# Altium footprint library aiskylab-09CirProtect.PcbLib: 20 footprints (part 1 of 2)
Each footprint in its own frame and in the unit in brackets; x right, y up, seen from the top. Pads: shape width x height; smd on the part's side, far side on the other; paste and mask are expansions set on the pad; w line width, h text height; cw(c..) or ccw(c..) is an arc to the next point about the centre after c.
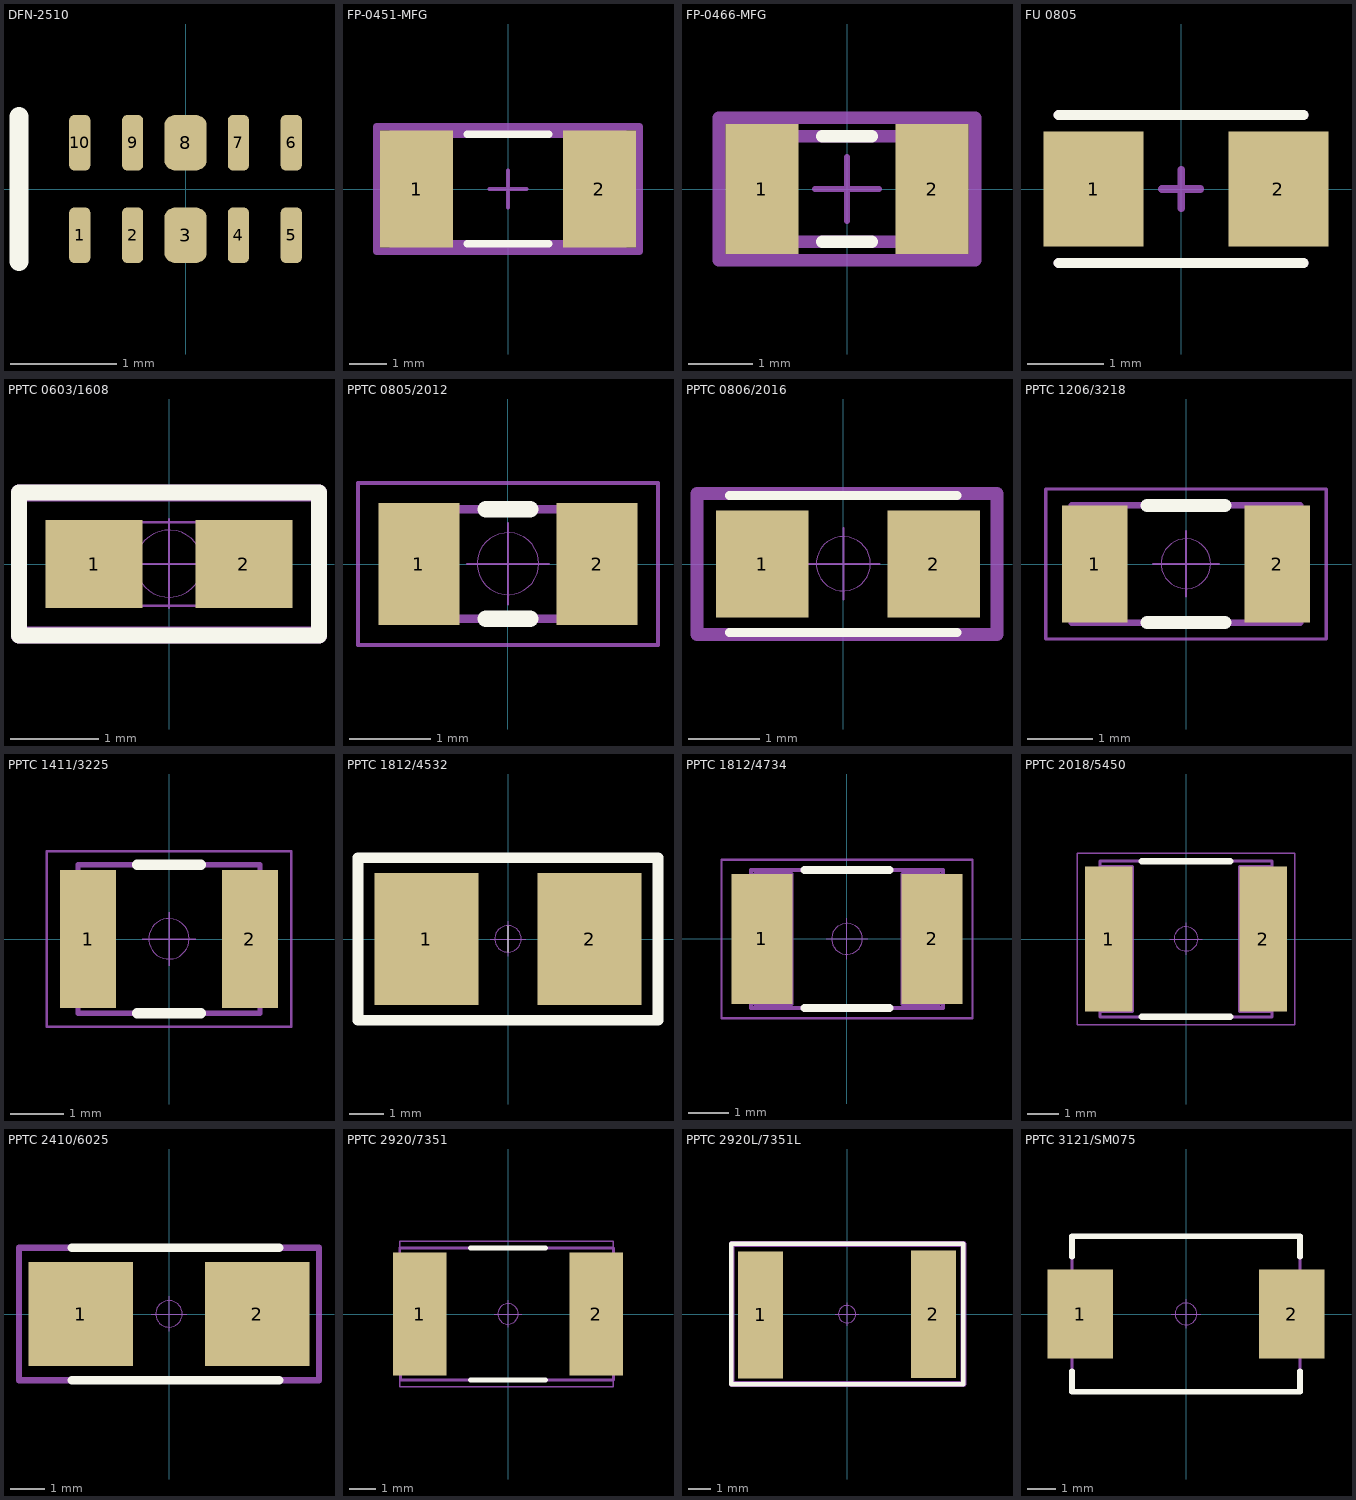
[diagram p0: the footprints below, top view; thin cyan lines are the x and y axes]

## DFN-2510 [mm]
pads (10):
  rrect50% 0.2x0.525 smd: 1(-1,-0.437) 2(-0.5,-0.437) 4(0.5,-0.437) 5(1,-0.437) 6(1,0.437) 7(0.5,0.437) 9(-0.5,0.437) 10(-1,0.437)
  rrect50% 0.4x0.525 smd: 3(0,-0.437) 8(0,0.437)
Top Overlay:
  lines w0.178: -1.575,-0.686 -1.575,0.686
3D body: height 0.55, standoff 0, extent -1.2,-0.5 1.2,0.5
3D body: height 0.15, standoff 0, extent -1.1,-0.55 -0.9,0.55
3D body: height 0.15, standoff 0, extent -0.6,-0.55 -0.4,0.55
3D body: height 0.15, standoff 0, extent 0.4,-0.55 0.6,0.55
3D body: height 0.15, standoff 0, extent 0.9,-0.55 1.1,0.55
3D body: height 0.15, standoff 0, extent -0.2,-0.55 0.2,0.55

## FP-0451-MFG [mil]
pads (2):
  rect 77x124 smd paste+0 mask+0: 1(-96.5,0) 2(96.5,0)
Top Overlay:
  lines w7.87: -43.11,-57.87 43.11,-57.87 ; -43.11,57.87 43.11,57.87
Top Designator:
  text ".Designator" at -299.9,-19.99 h60
Top Assembly:
  lines w7.87: -138.94,-65.94 -138.94,65.94 138.94,65.94 138.94,-65.94 -138.94,-65.94
Top Component Center:
  lines w3.94: -19.68,0 19.68,0 ; 0,-19.68 0,19.68
Top Component Outline:
  lines w7.87: -138.94,-65.94 -138.94,65.94 138.94,65.94 138.94,-65.94 -138.94,-65.94
Top 3D Body:
  lines w7.87: -124.02,-57.87 -124.02,57.87 124.02,57.87 124.02,-57.87 -124.02,-57.87
3D body "Fuse_Littelfuse_Inc_0451005_MRL_eec.STEP": height 105.91, standoff 0, extent -120.08,-58.27 120.08,47.64

## FP-0466-MFG [mil]
pads (2):
  rect 45x80 smd paste+0 mask+0: 1(-52.5,0) 2(52.5,0)
Top Overlay:
  lines w7.87: -15.24,-32.5 15.24,-32.5 ; -15.24,32.5 15.24,32.5
Top Designator:
  text ".Designator" at -299.9,-19.99 h60
Top Assembly:
  lines w7.87: -78.94,-43.94 78.94,-43.94 78.94,43.94 -78.94,43.94 -78.94,-43.94
Top Component Center:
  lines w3.94: -19.68,0 19.68,0 ; 0,-19.68 0,19.68
Top Component Outline:
  lines w7.87: -78.94,-43.94 78.94,-43.94 78.94,43.94 -78.94,43.94 -78.94,-43.94
Top 3D Body:
  lines w7.87: -65,-32.5 65,-32.5 65,32.5 -65,32.5 -65,-32.5
3D body "Fuse_Littelfuse_Inc_0466_250NR_eec.STEP": height 25.99, standoff 0, extent -62.38,-30.23 62.62,29.77

## FU 0805 [mm] "PTC"
height 5.46
pads (2):
  rect 1.3x1.5 smd: 1(-1.143,0)
  rect 1.3x1.5 smd mask+0.07: 2(1.27,0)
Top Overlay:
  lines w0.127: -1.6,-0.965 1.6,-0.965 ; -1.6,0.965 1.6,0.965
Top Assembly:
  lines w0.127: -1.6,-0.965 1.6,-0.965 ; -1.6,0.965 1.6,0.965
Top Component Center:
  lines w0.127: -1.6,-0.965 1.6,-0.965 ; -1.6,0.965 1.6,0.965
Bottom Component Center:
  lines w0.1: -0.25,0 0.25,0 ; 0,-0.25 0,0.25
3D body "p150-130.stp": height 0.02, standoff 0, extent -1.793,-0.75 -0.493,0.75
3D body "p150-130.stp": height 0.02, standoff 0, extent 0.62,-0.75 1.92,0.75
3D body "fb-0805.stp": height 0.87, standoff 0, extent -1,-0.75 1,0.75

## PPTC 0603/1608 [mm]
height 45
pads (2):
  rect 1.1x1 smd: 1(-0.85,0) 2(0.85,0)
Top Overlay:
  lines w0.18: -1.7,-0.813 1.7,-0.813 1.7,0.813 -1.7,0.813 -1.7,-0.813
Top Designator:
  text ".Designator" at -7.618,-0.508 h1.52
Top Assembly:
  lines w0.178: -1.702,-0.813 -1.702,0.813 1.702,0.813 1.702,-0.813 -1.702,-0.813
  text "1" at -0.65,0 h0.5
  text "2" at 1.05,0 h0.5
Top Component Center:
  circle w0.001: c0,0.004 r0.381
  lines w0.025: -0.508,0 0.508,0 ; 0,-0.5 0,0.508
Top Component Outline:
  lines w0.18: -1.7,-0.8 -1.7,0.8 1.7,0.8 1.7,-0.8 -1.7,-0.8
Top 3D Body:
  lines w0.025: -0.875,-0.475 -0.875,0.475 0.875,0.475 0.875,-0.475 -0.875,-0.475
3D body "0603-armpad.stp": height 0, standoff 0, extent -1.4,-0.5 -0.3,0.5
3D body "0603-armpad.stp": height 0, standoff 0, extent 0.3,-0.5 1.4,0.5
3D body "0603tvs.stp": height 0.27, standoff 0, extent -0.83,-0.42 0.83,0.42

## PPTC 0805/2012 [mm]
height 1
pads (2):
  rect 1x1.5 smd: 1(-1.1,0) 2(1.1,0)
Top Overlay:
  lines w0.2: -0.275,-0.675 0.275,-0.675 ; -0.275,0.675 0.275,0.675
Top Designator:
  text ".Designator" at -7.618,-0.508 h1.52
Top Component Center:
  circle w0.001: c0,0.004 r0.381
  lines w0.025: -0.508,0 0.508,0 ; 0,-0.5 0,0.508
Top Component Outline:
  lines w0.05: -1.85,-1 1.85,-1 1.85,1 -1.85,1 -1.85,-1
Top 3D Body:
  lines w0.1: -0.675,-0.675 -0.675,0.675 ; -0.675,-0.675 -1.05,-0.675 -1.05,-0.275 ccw(c-1.05,0) -1.05,0.275 -1.05,0.675 -0.675,0.675 ; -0.675,-0.675 0.675,-0.675 ; -0.675,-0.675 -0.675,0.675 ; -0.675,0.675 0.675,0.675 ; 0.675,-0.675 0.675,0.675 ; 0.675,-0.675 1.05,-0.675 1.05,-0.275 cw(c1.05,0) 1.05,0.275 1.05,0.675 0.675,0.675 ; 0.675,-0.675 0.675,0.675
3D body "p150-130.stp": height 0.02, standoff 0, extent -1.7,-0.75 -0.4,0.75
3D body "p150-130.stp": height 0.02, standoff 0, extent 0.4,-0.75 1.7,0.75
3D body "FUSR_LITTELFUSE_0805L010.stp": height 1, standoff 0, extent -1.05,-0.675 1.05,0.675

## PPTC 0806/2016 [mm] "2.10mmX1.6mm"
height 5.46
pads (2):
  rect 1.3x1.5 smd: 1(-1.143,0)
  rect 1.3x1.5 smd mask+0.07: 2(1.27,0)
Top Overlay:
  lines w0.127: -1.6,-0.965 1.6,-0.965 ; -1.6,0.965 1.6,0.965
Top Designator:
  text ".Designator" at -7.567,-0.508 h1.52
Top Component Center:
  circle w0.001: c0,0.004 r0.381
  lines w0.025: -0.508,0 0.508,0 ; 0,-0.5 0,0.508
Top 3D Body:
  lines w0.178: -2.057,-0.991 2.159,-0.991 2.159,0.991 -2.057,0.991 -2.057,-0.991
3D body "p150-130.stp": height 0.02, standoff 0, extent -1.793,-0.75 -0.493,0.75
3D body "p150-130.stp": height 0.02, standoff 0, extent 0.62,-0.75 1.92,0.75
3D body "fb-0805.stp": height 0.87, standoff 0, extent -1,-0.75 1,0.75

## PPTC 1206/3218 [mm]
height 1.45
pads (2):
  rect 1x1.8 smd: 1(-1.4,0) 2(1.4,0)
Top Overlay:
  lines w0.2: -0.6,-0.9 0.6,-0.9 ; -0.6,0.9 0.6,0.9
Top Designator:
  text ".Designator" at -7.618,-0.508 h1.52
Top Component Center:
  circle w0.001: c0,0.004 r0.381
  lines w0.025: -0.508,0 0.508,0 ; 0,-0.5 0,0.508
Top Component Outline:
  lines w0.05: -2.15,-1.15 2.15,-1.15 2.15,1.15 -2.15,1.15 -2.15,-1.15
Top 3D Body:
  lines w0.1: -1,-0.9 -1,0.9 ; 1,-0.9 1,0.9 ; -1.75,-0.9 1.75,-0.9 1.75,-0.225 cw(c1.75,0) 1.75,0.225 1.75,0.9 -1.75,0.9 -1.75,0.225 cw(c-1.75,0) -1.75,-0.225 -1.75,-0.9
3D body "p180-115.stp": height 0.02, standoff 0, extent -1.972,-0.9 -0.822,0.9
3D body "p180-115.stp": height 0.02, standoff 0, extent 0.822,-0.9 1.972,0.9
3D body "FUSR_LITTELFUSE_1206L012.stp": height 1.45, standoff 0, extent -1.75,-0.9 1.75,0.9

## PPTC 1411/3225 [mm] "PTC Resettable Fuse, Body 3.215mmx2.575mm, BOURNS MF-USMF Series"
height 1.1
pads (2):
  rect 1.05x2.6 smd: 1(-1.525,0) 2(1.525,0)
Top Overlay:
  lines w0.2: -0.6,-1.4 0.6,-1.4 ; -0.6,1.4 0.6,1.4
Top Designator:
  text ".Designator" at -7.618,-0.508 h1.52
Top Component Center:
  circle w0.001: c0,0.004 r0.381
  lines w0.025: -0.508,0 0.508,0 ; 0,-0.5 0,0.508
Top Component Outline:
  lines w0.05: -2.3,-1.65 -2.3,1.65 2.3,1.65 2.3,-1.65 -2.3,-1.65
Top 3D Body:
  lines w0.1: -1.715,-1.4 1.715,-1.4 1.715,1.4 -1.715,1.4 -1.715,-1.4
3D body "p260-105.stp": height 0.02, standoff 0, extent -2.049,-1.3 -0.999,1.3
3D body "FUSR_BOURNS_MF-USMF005.stp": height 1.1, standoff 0, extent -1.715,-1.4 1.715,1.4
3D body "p260-105.stp": height 0.02, standoff 0, extent 0.999,-1.3 2.049,1.3

## PPTC 1812/4532 [mm] "4.55mmX3.24mm"
height 5.46
pads (2):
  rect 3x3.81 smd: 1(-2.349,0)
  rect 3x3.81 smd mask+0.07: 2(2.349,0)
Top Overlay:
  lines w0.025: 0,-0.381 0,0.381
  lines w0.305: -4.318,-2.337 4.318,-2.337 4.318,2.337 -4.318,2.337 -4.318,-2.337
Top Designator:
  text ".Designator" at -7.618,-0.508 h1.52
Top Component Center:
  circle w0.001: c0,0.004 r0.381
  lines w0.025: -0.508,0 0.508,0 ; 0,-0.5 0,0.508
Top 3D Body:
  lines w0.178: -4.318,-2.337 -4.318,2.337 4.318,2.337 4.318,-2.337 -4.318,-2.337
3D body "3-3_81.stp": height 0.01, standoff 0, extent 0.85,-1.905 3.85,1.905
3D body "3-3_81.stp": height 0.01, standoff 0, extent -3.849,-1.905 -0.849,1.905
3D body "1812_ptc.stp": height 1, standoff 0, extent -2.388,-1.676 2.342,1.734

## PPTC 1812/4734 [mm] "ZFU 4734"
height 1.1
pads (2):
  rect 1.5x3.2 smd: 1(-2.1,0) 2(2.1,0)
Top Overlay:
  lines w0.2: -1.05,-1.705 1.05,-1.705 ; -1.05,1.705 1.05,1.705
Top Designator:
  text ".Designator" at -7.618,-0.508 h1.52
Top Component Outline:
  circle w0.001: c0,0.004 r0.381
  lines w0.025: -0.508,0 0.508,0 ; 0,-0.5 0,0.508
  lines w0.05: -3.1,-1.955 3.1,-1.955 3.1,1.955 -3.1,1.955 -3.1,-1.955
Top 3D Body:
  lines w0.1: -2.365,-0.592 -2.265,-0.592 -2.265,-1.605 -1.365,-1.605 -1.365,1.605 -2.265,1.605 -2.265,0.592 -2.365,0.592 ; 2.365,-0.592 2.265,-0.592 2.265,-1.605 1.365,-1.605 1.365,1.605 2.265,1.605 2.265,0.592 2.365,0.592 ; -2.365,-1.705 -2.365,-0.5 ccw(c-2.365,0) -2.365,0.5 -2.365,1.705 2.365,1.705 2.365,0.5 ccw(c2.365,0) 2.365,-0.5 2.365,-1.705 -2.365,-1.705
3D body "p320-150.stp": height 0.02, standoff 0, extent -2.85,-1.6 -1.35,1.6
3D body "p320-150.stp": height 0.02, standoff 0, extent 1.35,-1.6 2.85,1.6
3D body "FUSR_BOURNS_MF-MSMF_STYLE1(H110).stp": height 1.1, standoff 0, extent -2.365,-1.705 2.365,1.705

## PPTC 2018/5450 [mm] "PTC Resettable Fuse, MF-SMDF Series"
height 1.09
pads (2):
  rect 1.5x4.6 smd: 1(-2.45,0) 2(2.45,0)
Top Overlay:
  lines w0.2: -1.4,-2.465 1.4,-2.465 ; -1.4,2.465 1.4,2.465
Top Designator:
  text ".Designator" at -7.618,-0.508 h1.52
Top Component Center:
  circle w0.001: c0,0.004 r0.381
  lines w0.025: -0.508,0 0.508,0 ; 0,-0.5 0,0.508
Top Component Outline:
  lines w0.05: -3.45,-2.715 3.45,-2.715 3.45,2.715 -3.45,2.715 -3.45,-2.715
Top 3D Body:
  lines w0.1: -2.72,-2.3 -1.7,-2.3 -1.7,2.3 -2.72,2.3 ; 2.72,-2.3 1.7,-2.3 1.7,2.3 2.72,2.3 ; -2.72,-2.465 2.72,-2.465 2.72,-0.5 cw(c2.72,0) 2.72,0.5 2.72,2.465 -2.72,2.465 -2.72,0.5 cw(c-2.72,0) -2.72,-0.5 -2.72,-2.465
3D body "p460-150.stp": height 0.02, standoff 0, extent -3.2,-2.3 -1.7,2.3
3D body "p460-150.stp": height 0.02, standoff 0, extent 1.7,-2.3 3.2,2.3
3D body "FUSR_BOURNS_MF-SMDF050.stp": height 1.09, standoff 0, extent -2.72,-2.439 2.72,2.491

## PPTC 2410/6025 [mm]
pads (2):
  rect 3x3 smd: 1(-2.54,0) 2(2.54,0)
Top Overlay:
  lines w0.254: -2.794,-1.905 3.175,-1.905 ; -2.794,1.905 3.175,1.905
Top Designator:
  text ".Designator" at -7.618,-0.508 h1.52
Bottom Component Center:
  circle w0.001: c0,0.004 r0.381
  lines w0.025: -0.508,0 0.508,0 ; 0,-0.5 0,0.508
Top 3D Body:
  lines w0.178: -4.318,-1.905 -3.429,-1.905 4.318,-1.905 4.318,1.905 -4.318,1.905 -4.318,-1.905
3D body "2410-fu.stp": height 2.16, standoff 0, extent -3.05,-1.245 3.05,1.245
3D body "p300-300.stp": height 0.02, standoff 0, extent 1.04,-1.5 4.04,1.5
3D body "p300-300.stp": height 0.02, standoff 0, extent -4.04,-1.5 -1.04,1.5

## PPTC 2920/7351 [mm] "7.36mmX5.12mm"
height 1.09
pads (2):
  rect 2x4.6 smd: 1(-3.3,0) 2(3.3,0)
Top Overlay:
  lines w0.2: -1.4,-2.465 1.4,-2.465 ; -1.4,2.465 1.4,2.465
Top Designator:
  text ".Designator" at -7.618,-0.508 h1.52
Top Component Center:
  circle w0.001: c0,0.004 r0.381
  lines w0.025: -0.508,0 0.508,0 ; 0,-0.5 0,0.508
Top Component Outline:
  lines w0.05: -4.039,-2.715 -4.039,2.715 3.937,2.715 3.937,-2.715 -4.039,-2.715
Top 3D Body:
  lines w0.1: -4.039,0.5 -4.039,2.465 3.937,2.465 3.937,0.5 ; -4.013,-0.5 -4.013,-2.465 3.937,-2.465 3.937,-0.5 ; -4.013,-0.483 ccw(c-4.013,0.017) -4.013,0.517 ; 3.937,-0.483 cw(c3.937,0.017) 3.937,0.517
3D body "2920-7351.stp": height 1.25, standoff 0, extent -3.99,-2.72 3.99,2.72
3D body "p460-200.stp": height 0.01, standoff 0, extent 2.3,-2.3 4.3,2.3
3D body "p460-200.stp": height 0.01, standoff 0, extent -4.3,-2.3 -2.3,2.3

## PPTC 2920L/7351L [mm] "PolySwitch, 2-Leads, Body 8.7x6.35mm Nominal"
height 3
pads (2):
  rect 2x5.6 smd: 1(-3.81,-0.025) 2(3.81,0)
Top Overlay:
  lines w0.2: -5.105,-3.073 -5.105,3.099 5.131,3.099 5.131,-3.073 -5.105,-3.073
Top Designator:
  text ".Designator" at -7.592,-0.495 h1.52
Top Component Center:
  circle w0.001: c0,0.004 r0.381
  lines w0.025: -0.508,0 0.508,0 ; 0,-0.5 0,0.508
Top Component Outline:
  lines w0.254: -5.08,-3.073 -5.08,3.099 5.131,3.099 5.131,-3.073 -5.08,-3.073
Top 3D Body:
  lines w0.254: -5.08,-3.073 5.131,-3.073 5.131,3.099 -5.08,3.099 -5.08,-3.073
3D body "2920l.stp": height 1.35, standoff 0, extent -4.015,-2.72 3.965,2.72
3D body "p560-200.stp": height 0.01, standoff 0, extent 2.81,-2.8 4.81,2.8
3D body "p560-200.stp": height 0.01, standoff 0, extent -4.81,-2.825 -2.81,2.775

## PPTC 3121/SM075 [mm] "PolySwitch, 2-Leads, Body 7.35x5.12mm Nominal"
height 3.18
pads (2):
  rect 2.3x3.1 smd: 1(-3.7,0) 2(3.7,0)
Top Overlay:
  lines w0.2: -3.99,-2 -3.99,-2.72 3.99,-2.72 3.99,-2 ; -3.99,2 -3.99,2.72 3.99,2.72 3.99,2
Top Designator:
  text ".Designator" at -7.618,-0.508 h1.52
Top Component Center:
  circle w0.001: c0,0.004 r0.381
  lines w0.025: -0.508,0 0.508,0 ; 0,-0.5 0,0.508
Top 3D Body:
  lines w0.1: 3.99,-1.205 3.99,1.205 ; -3.99,-2.72 3.99,-2.72 3.99,2.72 -3.99,2.72 -3.99,-2.72
3D body "p310-230.stp": height 0.02, standoff 0, extent -4.85,-1.55 -2.55,1.55
3D body "p310-230.stp": height 0.02, standoff 0, extent 2.55,-1.55 4.85,1.55
3D body "FUSR_BOURNS_MF-SM075.stp": height 3.18, standoff 0, extent -3.99,-2.72 3.99,2.72